# EAGLE library part TS4871ID (library df4iah_opamp)
STMICROELECTRONICS TS4871ID Audio amplifier, AB, 1 channel, 1 W, 2.5V to 5.5V, SOIC-08
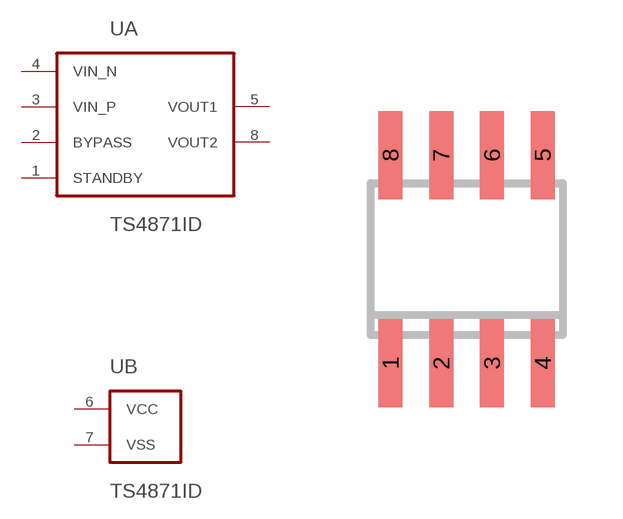
[diagram p3: symbol with the pads of SO08; footprint SO08]

Designator prefix U; gates A=TS4871__A B=TS4871__B

## TS4871ID  [SO08]
1  A:STANDBY  in
2  A:BYPASS  pas
3  A:VIN_P  pas
4  A:VIN_N  pas
5  A:VOUT1  pas
6  B:VCC  pwr
7  B:VSS  pwr
8  A:VOUT2  pas

## Footprint SO08 (pad centres in mm)
Small Outline Package 8 NS Package M08A
smd 0.6 x 2.2: 1 -1.905,-2.6; 2 -0.635,-2.6; 3 0.635,-2.6; 4 1.905,-2.6; 5 1.905,2.6; 6 0.635,2.6; 7 -0.635,2.6; 8 -1.905,2.6